# Altium footprint library Components - 23.05.23 - 14.33.PcbLib: 1 footprints
Each footprint in its own frame and in the unit in brackets; x right, y up, seen from the top. Pads: shape width x height; smd on the part's side, far side on the other; paste and mask are expansions set on the pad; w line width, h text height; cw(c..) or ccw(c..) is an arc to the next point about the centre after c.
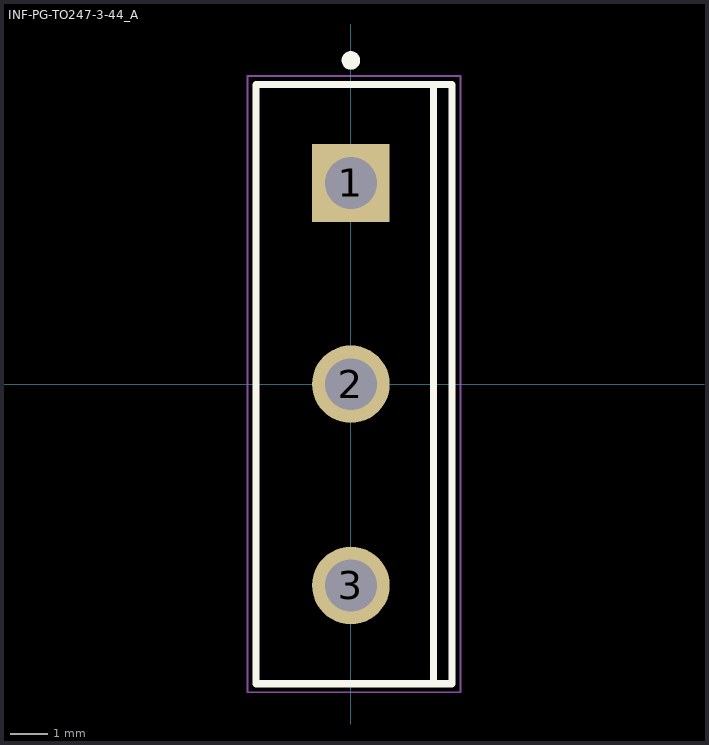
[diagram p0: the footprint, top view; thin cyan lines are the x and y axes]

## INF-PG-TO247-3-44_A [mm] "FM, 3-Leads, Body 15.915x5.02mm, Pitch 5.44mm"
height 25.57
pads (3):
  rect 2.1x2.1 hole 1.4: 1(0,5.44)
  round 2.1 hole 1.4: 2(0,0) 3(0,-5.44)
Top Overlay:
  circle w0.25: c0,8.75 r0.125
  lines w0.2: 2.235,-8.1 2.235,8.1 ; -2.565,-8.1 -2.565,8.1 2.735,8.1 2.735,-8.1 -2.565,-8.1
Mechanical 13:
  lines w0.1: 2.71,-8.075 2.71,8.075 ; 2.71,-8.075 -2.54,-8.075 -2.54,8.075 2.71,8.075 ; 2.71,-8.075 2.71,8.075
Mechanical 15:
  lines w0.05: -2.79,-8.325 2.96,-8.325 2.96,8.325 -2.79,8.325 -2.79,-8.325
  lines w0.1: -0.5,0 0.5,0 ; 0,-0.5 0,0.5
3D body: height 25.57, standoff 21.22, extent 2.71,-7.95 2.71,7.95
3D body: height 19.78, standoff 19.42, extent 2.71,-7.95 2.71,-1.8
3D body: height 19.78, standoff 19.42, extent 2.71,1.8 2.71,7.95
3D body: height 19.42, standoff 19.07, extent 2.71,-7.95 2.71,-1.8
3D body: height 19.42, standoff 19.07, extent 2.71,1.8 2.71,7.95
3D body: height 20.11, standoff 19.77, extent 2.71,-7.95 2.71,-1.765
3D body: height 20.11, standoff 19.77, extent 2.71,1.765 2.71,7.95
3D body: height 19.07, standoff 18.73, extent 2.71,-7.95 2.71,-1.765
3D body: height 19.07, standoff 18.73, extent 2.71,1.765 2.71,7.95
3D body: height 20.43, standoff 20.11, extent 2.71,-7.95 2.71,-1.663
3D body: height 20.43, standoff 20.11, extent 2.71,1.663 2.71,7.95
3D body: height 18.74, standoff 18.42, extent 2.71,-7.95 2.71,-1.663
3D body: height 18.74, standoff 18.42, extent 2.71,1.663 2.71,7.95
3D body: height 20.7, standoff 20.42, extent 2.71,-7.95 2.71,-1.497
3D body: height 20.7, standoff 20.42, extent 2.71,1.497 2.71,7.95
3D body: height 18.42, standoff 18.15, extent 2.71,-7.95 2.71,-1.497
3D body: height 18.42, standoff 18.15, extent 2.71,1.497 2.71,7.95
3D body: height 20.92, standoff 20.69, extent 2.71,-7.95 2.71,-1.273
3D body: height 20.92, standoff 20.69, extent 2.71,1.273 2.71,7.95
3D body: height 18.15, standoff 17.92, extent 2.71,-7.95 2.71,-1.273
3D body: height 18.15, standoff 17.92, extent 2.71,1.273 2.71,7.95
3D body: height 21.09, standoff 20.92, extent 2.71,-7.95 2.71,-1
3D body: height 21.09, standoff 20.92, extent 2.71,1 2.71,7.95
3D body: height 17.93, standoff 17.76, extent 2.71,-7.95 2.71,-1
3D body: height 17.93, standoff 17.76, extent 2.71,1 2.71,7.95
3D body: height 21.19, standoff 21.08, extent 2.71,-7.95 2.71,-0.689
3D body: height 21.19, standoff 21.08, extent 2.71,0.689 2.71,7.95
3D body: height 17.76, standoff 17.65, extent 2.71,-7.95 2.71,-0.689
3D body: height 17.76, standoff 17.65, extent 2.71,0.689 2.71,7.95
3D body: height 21.22, standoff 21.19, extent 2.71,-7.95 2.71,-0.351
3D body: height 21.22, standoff 21.19, extent 2.71,0.351 2.71,7.95
3D body: height 17.66, standoff 17.62, extent 2.71,-7.95 2.71,-0.351
3D body: height 17.66, standoff 17.62, extent 2.71,0.351 2.71,7.95
3D body: height 25.57, standoff 17.62, extent 2.71,-7.95 2.71,7.95
3D body: height 25.57, standoff 4.1, extent -2.54,-8.075 2.71,8.075
3D body: height 0, standoff -1.6, extent -0.31,-6.04 0.31,-4.84
3D body: height 4.1, standoff 0, extent -0.31,-6.52 0.31,-4.36
3D body: height 0, standoff -1.6, extent -0.31,-0.6 0.31,0.6
3D body: height 4.1, standoff 0, extent -0.31,-1.08 0.31,1.08
3D body: height 0, standoff -1.6, extent -0.31,4.84 0.31,6.04
3D body: height 4.1, standoff 0, extent -0.31,4.36 0.31,6.52